# EAGLE library part IS31FL3236 (library ISSI)
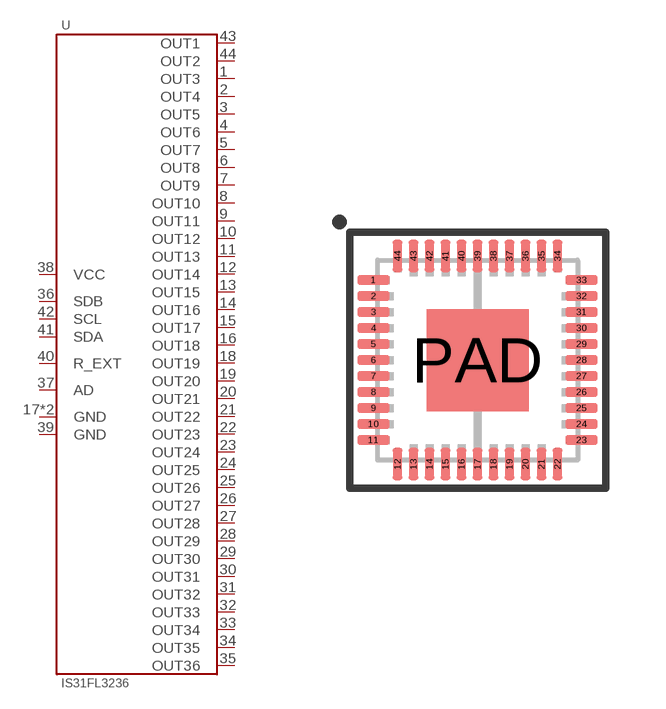
[diagram p2: symbol with the pads of POWERQFN-44-5X5; footprint POWERQFN-44-5X5]

Designator prefix U

## IS31FL3236-QFLS2-TR  [POWERQFN-44-5X5]
1  OUT3
2  OUT4
3  OUT5
4  OUT6
5  OUT7
6  OUT8
7  OUT9
8  OUT10
9  OUT11
10  OUT12
11  OUT13
12  OUT14
13  OUT15
14  OUT16
15  OUT17
16  OUT18
17  GND
18  OUT19
19  OUT20
20  OUT21
21  OUT22
22  OUT23
23  OUT24
24  OUT25
25  OUT26
26  OUT27
27  OUT28
28  OUT29
29  OUT30
30  OUT31
31  OUT32
32  OUT33
33  OUT34
34  OUT35
35  OUT36
36  SDB
37  AD
38  VCC
39  GND
40  R_EXT
41  SDA
42  SCL
43  OUT1
44  OUT2
PAD  GND

## Footprint POWERQFN-44-5X5 (pad centres in mm)
smd 0.8 x 0.24: 1 -2.6,2; 2 -2.6,1.6; 3 -2.6,1.2; 4 -2.6,0.8; 5 -2.6,0.4; 6 -2.6,0; 7 -2.6,-0.4; 8 -2.6,-0.8; 9 -2.6,-1.2; 10 -2.6,-1.6; 11 -2.6,-2; 23 2.6,-2; 24 2.6,-1.6; 25 2.6,-1.2; 26 2.6,-0.8; 27 2.6,-0.4; 28 2.6,0; 29 2.6,0.4; 30 2.6,0.8; 31 2.6,1.2; 32 2.6,1.6; 33 2.6,2
smd 0.24 x 0.8: 12 -2,-2.6; 13 -1.6,-2.6; 14 -1.2,-2.6; 15 -0.8,-2.6; 16 -0.4,-2.6; 17 0,-2.6; 18 0.4,-2.6; 19 0.8,-2.6; 20 1.2,-2.6; 21 1.6,-2.6; 22 2,-2.6; 34 2,2.6; 35 1.6,2.6; 36 1.2,2.6; 37 0.8,2.6; 38 0.4,2.6; 39 0,2.6; 40 -0.4,2.6; 41 -0.8,2.6; 42 -1.2,2.6; 43 -1.6,2.6; 44 -2,2.6
smd 2.55 x 2.55: PAD 0,0